# Altium footprint library Calculator_PcbLib.PcbLib: 3 footprints
Each footprint in its own frame and in the unit in brackets; x right, y up, seen from the top. Pads: shape width x height; smd on the part's side, far side on the other; paste and mask are expansions set on the pad; w line width, h text height; cw(c..) or ccw(c..) is an arc to the next point about the centre after c.
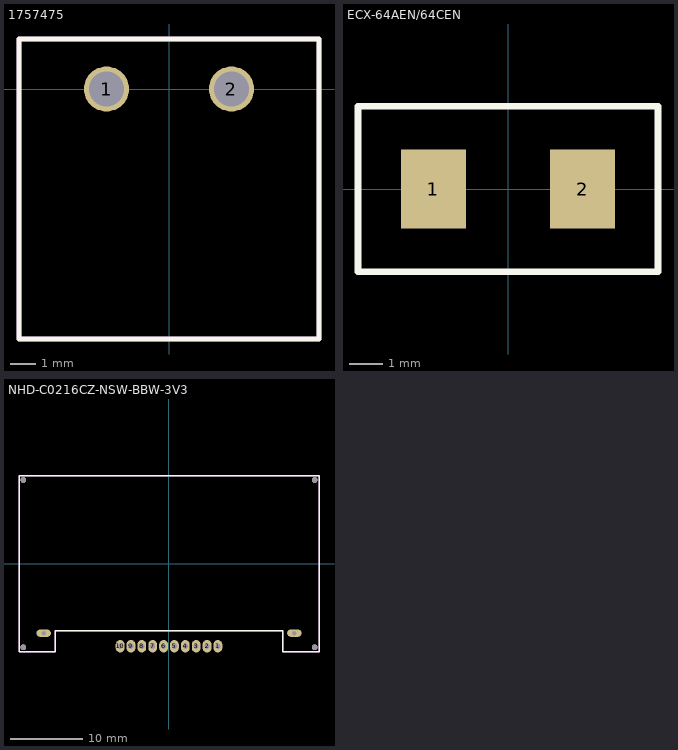
[diagram p0: the footprints below, top view; thin cyan lines are the x and y axes]

## 1757475 [mm]
pads (2):
  round 1.8 hole 1.4: 1(-2.5,0) 2(2.5,0)
Top Overlay:
  lines w0.2: -6,-10 -6,2 6,2 6,-10 -6,-10
Top Assembly:
  lines w0.2: -6,-10 -6,2 6,2 6,-10 -6,-10
  text ".Designator" at -7.318,2.892 h1.52
3D body "1757475.stp": height 8.57, standoff -3.5, extent -6,-10 6,2

## ECX-64AEN/64CEN [mm]
pads (2):
  rect 1.96x2.4 smd: 1(-2.25,0) 2(2.25,0)
Top Overlay:
  lines w0.2: -4.53,-2.5 4.53,-2.5 4.53,2.5 -4.53,2.5 -4.53,0 -4.53,-2.5
3D body "ECS-160-20-23A-EN-TR.STEP": height 1.11, standoff 0.01, extent -3,-1.75 3,1.75

## NHD-C0216CZ-NSW-BBW-3V3 [mm]
pads (16):
  rrect100% 1.2x1.7 hole 0.7: 1(6.75,-11.4) 2(5.25,-11.4) 3(3.75,-11.4) 4(2.25,-11.4) 5(0.75,-11.4) 6(-0.75,-11.4) 7(-2.25,-11.4) 8(-3.75,-11.4) 9(-5.25,-11.4) 10(-6.75,-11.4)
  oval 2x1 hole 0.6 square: A(17.304,-9.59) K(-17.3,-9.6)
  round 0.8 hole 0.8 unplated: TH(-20.1,-11.55) TH(-20.1,11.55) TH(20.1,-11.55) TH(20.1,11.55)
Top Overlay:
  lines w0.2: -20.7,-12.15 -15.7,-12.15 -15.7,-9.25 13.7,-9.25 15.7,-9.25 15.7,-12.15 20.7,-12.15 20.7,12.15 -20.7,12.15 -20.7,-12.15
Top Assembly:
  lines w0.2: -20.7,-12.15 -15.7,-12.15 -15.7,-9.25 13.7,-9.25 15.7,-9.25 15.7,-12.15 20.7,-12.15 20.7,12.15 -20.7,12.15 -20.7,-12.15
  text ".Designator" at -7.618,-0.508 h1.52
3D body "NHD-C0216CZ-FSW-FBW-3V3.STEP": height 4.1, standoff -3, extent -20.7,-12.15 20.7,12.15